# Altium footprint library PWM.PcbLib: 1 footprints
Each footprint in its own frame and in the unit in brackets; x right, y up, seen from the top. Pads: shape width x height; smd on the part's side, far side on the other; paste and mask are expansions set on the pad; w line width, h text height; cw(c..) or ccw(c..) is an arc to the next point about the centre after c.
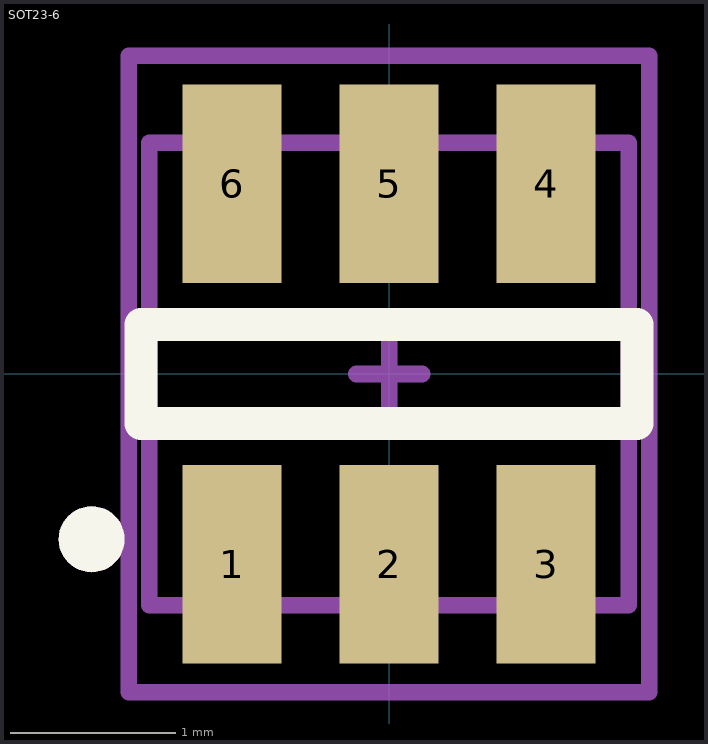
[diagram p0: the footprint, top view; thin cyan lines are the x and y axes]

## SOT23-6 [mm]
pads (8):
  rect 0.6x1.2 smd: 1(-0.95,-1.15) 2(0,-1.15) 3(0.95,-1.15) 4(0.95,1.15) 5(0,1.15) 6(-0.95,1.15)
  round 0.4 on Mech1: ""(-1.8,-1)
  round 0.4 on Top Overlay: ""(-1.8,-1)
Top Overlay:
  lines w0.2: -1.5,-0.3 -1.5,0.3 1.5,0.3 1.5,-0.3 -1.5,-0.3
Mechanical 1:
  lines w0.1: 1.45,-1.4 1.45,-1.4 ; 1.45,-1.4 1.45,1.4 -1.45,1.4 -1.45,-1.4 1.45,-1.4
Mechanical 15:
  lines w0.1: -0.2,0 0.2,0 ; 0,-0.2 0,0.2 ; -1.575,-1.925 -1.575,1.925 1.575,1.925 1.575,-1.925 -1.575,-1.925
3D body "User Library-SOT23-6-2.step": height 1.45, standoff 0, extent -1.45,-1.4 1.45,1.4